# Altium footprint library al-sensor.PcbLib: 1 footprints
Each footprint in its own frame and in the unit in brackets; x right, y up, seen from the top. Pads: shape width x height; smd on the part's side, far side on the other; paste and mask are expansions set on the pad; w line width, h text height; cw(c..) or ccw(c..) is an arc to the next point about the centre after c.
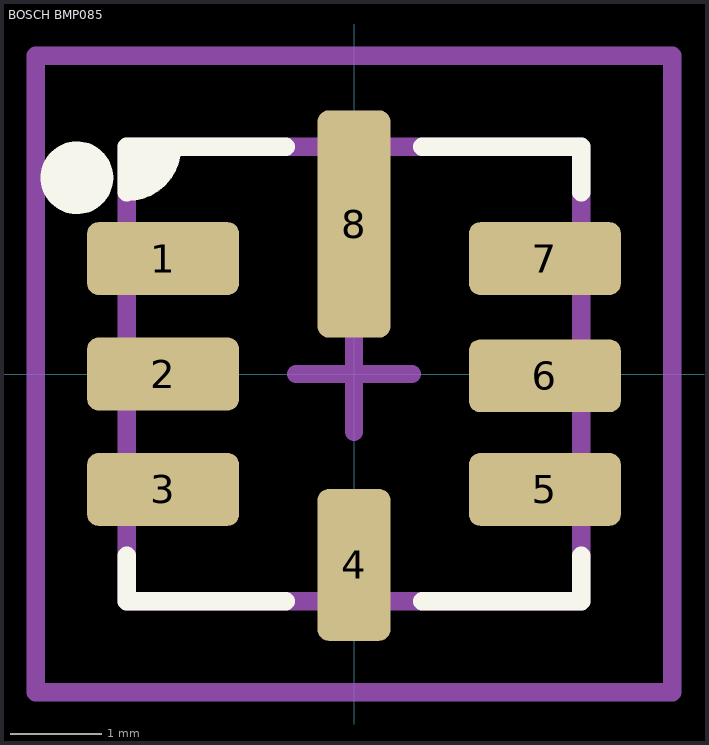
[diagram p0: the footprint, top view; thin cyan lines are the x and y axes]

## BOSCH BMP085 [mm] "Bosch BMP085 digital pressure sensor"
height 1.2
pads (8):
  rrect30% 1.67x0.8 smd: 1(-2.1,1.27) 2(-2.1,0) 3(-2.1,-1.27) 5(2.1,-1.27) 6(2.1,-0.02) 7(2.1,1.27)
  rrect30% 0.8x1.67 smd: 4(0,-2.1)
  rrect30% 0.8x2.5 smd: 8(0,1.65)
Top Overlay:
  circle w0.4: c-3.048,2.159 r0.2
  region: -2.5,2.5 -2.032,2.5 -2.032,2.286 -2.286,2.032 -2.5,2.032
  lines w0.2: -2.5,-2 -2.5,-2.5 -0.75,-2.5 ; -2,2.5 cw(c-2.5,2.5) -2.5,2 -2.5,2.5 -0.75,2.5 ; 0.75,-2.5 2.5,-2.5 2.5,-2 ; 0.75,2.5 2.5,2.5 2.5,2
Mechanical 1:
  lines w0.2: -2.5,-2.5 -2.5,2.5 2.5,2.5 2.5,-2.5 -2.5,-2.5
Mechanical 15:
  lines w0.2: -0.635,0 0.635,0 ; 0,-0.635 0,0.635 ; -3.5,-3.5 3.5,-3.5 3.5,3.5 -3.5,3.5 -3.5,-3.5
3D body "BMP085.STEP": height 1.2, standoff 0, extent -2.5,-2.5 2.5,2.5